# Altium schematic symbol library PCIEx16toMXM3.0.SchLib: 16 symbols
Pins are listed as number, name and electrical type; pins without a type are passive.

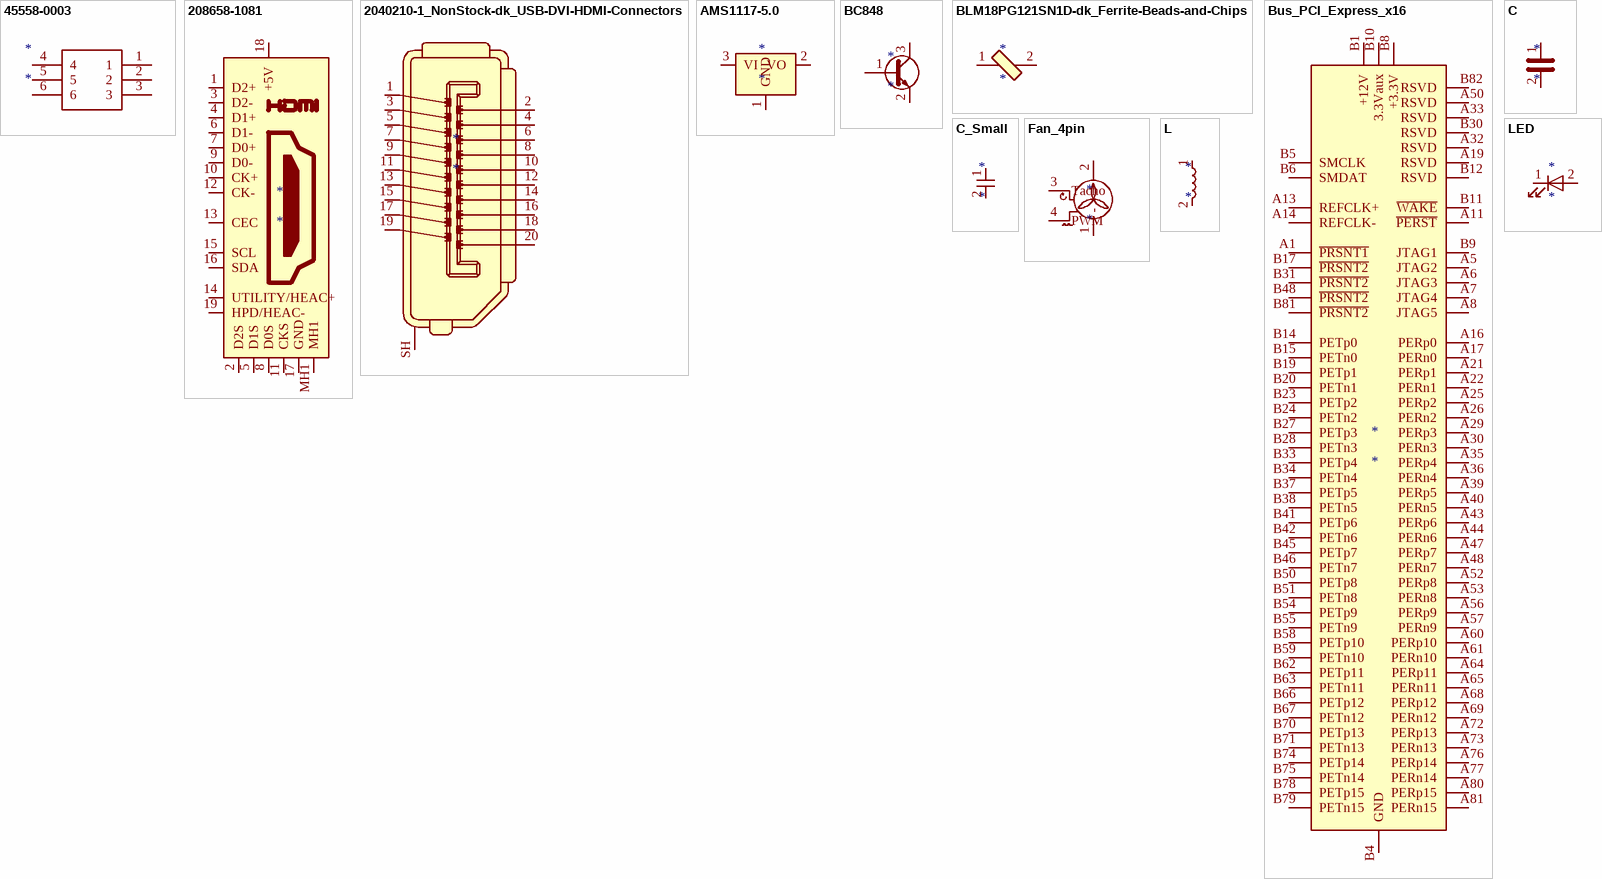
[diagram p0: symbols 45558-0003 to LED]

## 45558-0003
designator *
pins: 1, 2, 3, 4, 5, 6

## 208658-1081
designator *
pins: 1 D2+, 2 D2S, 3 D2-, 4 D1+, 5 D1S, 6 D1-, 7 D0+, 8 D0S, 9 D0-, 10 CK+, 11 CKS, 12 CK-, 13 CEC, 14 UTILITY/HEAC+, 15 SCL, 16 SDA, 17 GND, 18 +5V, 19 HPD/HEAC-, MH1, MH2 hidden, MH3 hidden, MH4 hidden

## 2040210-1_NonStock-dk_USB-DVI-HDMI-Connectors
designator *
pins: 1, 2, 3, 4, 5, 6, 7, 8, 9, 10, 11, 12, 13, 14, 15, 16, 17, 18, 19, 20, SH

## AMS1117-5.0
designator *
pins: 1 GND, 2 VO, 3 VI

## BC848
designator *
pins: 1 B, 2 E, 3 C

## BLM18PG121SN1D-dk_Ferrite-Beads-and-Chips
designator *
pins: 1, 2

## Bus_PCI_Express_x16
designator *
pins: A1 ~{PRSNT1}, A2 +12V hidden, A3 +12V hidden, A4 GND hidden, A5 JTAG2, A6 JTAG3, A7 JTAG4, A8 JTAG5, A9 +3.3V hidden, A10 +3.3V hidden, A11 ~{PERST}, A12 GND hidden, A13 REFCLK+, A14 REFCLK-, A15 GND hidden, A16 PERp0, A17 PERn0, A18 GND hidden, A19 RSVD, A20 GND hidden, A21 PERp1, A22 PERn1, A23 GND hidden, A24 GND hidden, A25 PERp2, A26 PERn2, A27 GND hidden, A28 GND hidden, A29 PERp3, A30 PERn3, A31 GND hidden, A32 RSVD, A33 RSVD, A34 GND hidden, A35 PERp4, A36 PERn4, A37 GND hidden, A38 GND hidden, A39 PERp5, A40 PERn5, A41 GND hidden, A42 GND hidden, A43 PERp6, A44 PERn6, A45 GND hidden, A46 GND hidden, A47 PERp7, A48 PERn7, A49 GND hidden, A50 RSVD, A51 GND hidden, A52 PERp8, A53 PERn8, A54 GND hidden, A55 GND hidden, A56 PERp9, A57 PERn9, A58 GND hidden, A59 GND hidden, A60 PERp10, A61 PERn10, A62 GND hidden, A63 GND hidden, A64 PERp11, A65 PERn11, A66 GND hidden, A67 GND hidden, A68 PERp12, A69 PERn12, A70 GND hidden, A71 GND hidden, A72 PERp13, A73 PERn13, A74 GND hidden, A75 GND hidden, A76 PERp14, A77 PERn14, A78 GND hidden, A79 GND hidden, A80 PERp15, A81 PERn15, A82 GND hidden, B1 +12V, B2 +12V hidden, B3 +12V hidden, B4 GND, B5 SMCLK, B6 SMDAT, B7 GND hidden, B8 +3.3V, B9 JTAG1, B10 3.3Vaux, B11 ~{WAKE}, B12 RSVD, B13 GND hidden, B14 PETp0, B15 PETn0, B16 GND hidden, B17 ~{PRSNT2}, B18 GND hidden, B19 PETp1, B20 PETn1, B21 GND hidden, B22 GND hidden, B23 PETp2, B24 PETn2, B25 GND hidden, B26 GND hidden, B27 PETp3, B28 PETn3, B29 GND hidden, B30 RSVD, B31 ~{PRSNT2}, B32 GND hidden, B33 PETp4, B34 PETn4, B35 GND hidden, B36 GND hidden, B37 PETp5, B38 PETn5, B39 GND hidden, B40 GND hidden, B41 PETp6, B42 PETn6, B43 GND hidden, B44 GND hidden, B45 PETp7, B46 PETn7, B47 GND hidden, B48 ~{PRSNT2}, B49 GND hidden, B50 PETp8, B51 PETn8, B52 GND hidden, B53 GND hidden, B54 PETp9, B55 PETn9, B56 GND hidden, B57 GND hidden, B58 PETp10, B59 PETn10, B60 GND hidden, B61 GND hidden, B62 PETp11, B63 PETn11, B64 GND hidden, B65 GND hidden, B66 PETp12, B67 PETn12, B68 GND hidden, B69 GND hidden, B70 PETp13, B71 PETn13, B72 GND hidden, B73 GND hidden, B74 PETp14, B75 PETn14, B76 GND hidden, B77 GND hidden, B78 PETp15, B79 PETn15, B80 GND hidden, B81 ~{PRSNT2}, B82 RSVD

## C
designator *
pins: 1, 2

## C_Small
designator *
pins: 1, 2

## Fan_4pin
designator *
pins: 1 -, 2 +, 3 Tacho, 4 PWM

## L
designator *
pins: 1, 2

## LED
designator *
pins: 1 K, 2 A

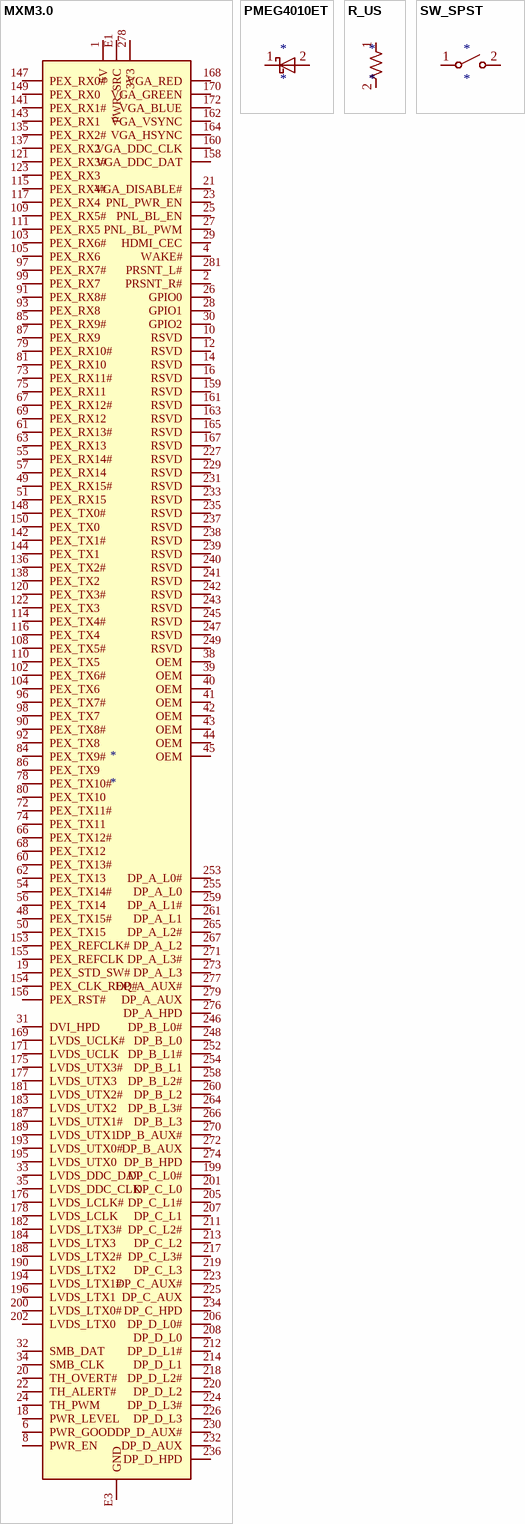
[diagram p1: symbols MXM3.0 to SW_SPST]

## MXM3.0
designator *
pins: 1 5V, 2 PRSNT_R#, 3 5V hidden, 4 WAKE#, 5 5V hidden, 6 PWR_GOOD, 7 5V hidden, 8 PWR_EN, 9 5V hidden, 10 RSVD, 11 GND hidden, 12 RSVD, 13 GND hidden, 14 RSVD, 15 GND hidden, 16 RSVD, 17 GND hidden, 18 PWR_LEVEL, 19 PEX_STD_SW#, 20 TH_OVERT#, 21 VGA_DISABLE#, 22 TH_ALERT#, 23 PNL_PWR_EN, 24 TH_PWM, 25 PNL_BL_EN, 26 GPIO0, 27 PNL_BL_PWM, 28 GPIO1, 29 HDMI_CEC, 30 GPIO2, 31 DVI_HPD, 32 SMB_DAT, 33 LVDS_DDC_DAT, 34 SMB_CLK, 35 LVDS_DDC_CLK, 36 GND hidden, 37 GND hidden, 38 OEM, 39 OEM, 40 OEM, 41 OEM, 42 OEM, 43 OEM, 44 OEM, 45 OEM, 46 GND hidden, 47 GND hidden, 48 PEX_TX15#, 49 PEX_RX15#, 50 PEX_TX15, 51 PEX_RX15, 52 GND hidden, 53 GND hidden, 54 PEX_TX14#, 55 PEX_RX14#, 56 PEX_TX14, 57 PEX_RX14, 58 GND hidden, 59 GND hidden, 60 PEX_TX13#, 61 PEX_RX13#, 62 PEX_TX13, 63 PEX_RX13, 64 GND hidden, 65 GND hidden, 66 PEX_TX12#, 67 PEX_RX12#, 68 PEX_TX12, 69 PEX_RX12, 70 GND hidden, 71 GND hidden, 72 PEX_TX11#, 73 PEX_RX11#, 74 PEX_TX11, 75 PEX_RX11, 76 GND hidden, 77 GND hidden, 78 PEX_TX10#, 79 PEX_RX10#, 80 PEX_TX10, 81 PEX_RX10, 82 GND hidden, 83 GND hidden, 84 PEX_TX9#, 85 PEX_RX9#, 86 PEX_TX9, 87 PEX_RX9, 88 GND hidden, 89 GND hidden, 90 PEX_TX8#, 91 PEX_RX8#, 92 PEX_TX8, 93 PEX_RX8, 94 GND hidden, 95 GND hidden, 96 PEX_TX7#, 97 PEX_RX7#, 98 PEX_TX7, 99 PEX_RX7, 100 GND hidden, 101 GND hidden, 102 PEX_TX6#, 103 PEX_RX6#, 104 PEX_TX6, 105 PEX_RX6, 106 GND hidden, 107 GND hidden, 108 PEX_TX5#, 109 PEX_RX5#, 110 PEX_TX5, 111 PEX_RX5, 112 GND hidden, 113 GND hidden, 114 PEX_TX4#, 115 PEX_RX4#, 116 PEX_TX4, 117 PEX_RX4, 118 GND hidden, 119 GND hidden, 120 PEX_TX3#, 121 PEX_RX3#, 122 PEX_TX3, 123 PEX_RX3, 124 GND hidden, 125 GND hidden, 133 GND hidden, 134 GND hidden, 135 PEX_RX2#, 136 PEX_TX2#, 137 PEX_RX2, 138 PEX_TX2, 139 GND hidden, 140 GND hidden, 141 PEX_RX1#, 142 PEX_TX1#, 143 PEX_RX1, 144 PEX_TX1, 145 GND hidden, 146 GND hidden, 147 PEX_RX0#, 148 PEX_TX0#, 149 PEX_RX0, 150 PEX_TX0, 151 GND hidden, 152 GND hidden, 153 PEX_REFCLK#, 154 PEX_CLK_REQ#, 155 PEX_REFCLK, 156 PEX_RST#, 157 GND hidden, 158 VGA_DDC_DAT, 159 RSVD, 160 VGA_DDC_CLK, 161 RSVD, 162 VGA_VSYNC, 163 RSVD, 164 VGA_HSYNC, 165 RSVD, 166 GND hidden, 167 RSVD, 168 VGA_RED, 169 LVDS_UCLK#, 170 VGA_GREEN, 171 LVDS_UCLK, 172 VGA_BLUE, 173 GND hidden, 174 GND hidden, 175 LVDS_UTX3#, 176 LVDS_LCLK#, 177 LVDS_UTX3, 178 LVDS_LCLK, 179 GND hidden, 180 GND hidden, 181 LVDS_UTX2#, 182 LVDS_LTX3#, 183 LVDS_UTX2, 184 LVDS_LTX3, 185 GND hidden, 186 GND hidden, 187 LVDS_UTX1#, 188 LVDS_LTX2#, 189 LVDS_UTX1, 190 LVDS_LTX2, 191 GND hidden, 192 GND hidden, 193 LVDS_UTX0#, 194 LVDS_LTX1#, 195 LVDS_UTX0, 196 LVDS_LTX1, 197 GND hidden, 198 GND hidden, 199 DP_C_L0#, 200 LVDS_LTX0#, 201 DP_C_L0, 202 LVDS_LTX0, 203 GND hidden, 204 GND hidden, 205 DP_C_L1#, 206 DP_D_L0#, 207 DP_C_L1, 208 DP_D_L0, 209 GND hidden, 210 GND hidden, 211 DP_C_L2#, 212 DP_D_L1#, 213 DP_C_L2, 214 DP_D_L1, 215 GND hidden, 216 GND hidden, 217 DP_C_L3#, 218 DP_D_L2#, 219 DP_C_L3, 220 DP_D_L2, 221 GND hidden, 222 GND hidden, 223 DP_C_AUX#, 224 DP_D_L3#, 225 DP_C_AUX, 226 DP_D_L3, 227 RSVD, 228 GND hidden, 229 RSVD, 230 DP_D_AUX#, 231 RSVD, 232 DP_D_AUX, 233 RSVD, 234 DP_C_HPD, 235 RSVD, 236 DP_D_HPD, 237 RSVD, 238 RSVD, 239 RSVD, 240 RSVD, 241 RSVD, 242 RSVD, 243 RSVD, 244 GND hidden, 245 RSVD, 246 DP_B_L0#, 247 RSVD, 248 DP_B_L0, 249 RSVD, 250 GND hidden, 251 GND hidden, 252 DP_B_L1#, 253 DP_A_L0#, 254 DP_B_L1, 255 DP_A_L0, 256 GND hidden, 257 GND hidden, 258 DP_B_L2#, 259 DP_A_L1#, 260 DP_B_L2, 261 DP_A_L1, 262 GND hidden, 263 GND hidden, 264 DP_B_L3#, 265 DP_A_L2#, 266 DP_B_L3, 267 DP_A_L2, 268 GND hidden, 269 GND hidden, 270 DP_B_AUX#, 271 DP_A_L3#, 272 DP_B_AUX, 273 DP_A_L3, 274 DP_B_HPD, 275 GND hidden, 276 DP_A_HPD, 277 DP_A_AUX#, 278 3V3, 279 DP_A_AUX, 280 3V3 hidden, 281 PRSNT_L#, E1 PWR_SRC, E2 PWR_SRC hidden, E3 GND, E4 GND hidden

## PMEG4010ET
designator *
pins: 1 K, 2 A

## R_US
designator *
pins: 1, 2

## SW_SPST
designator *
pins: 1 A, 2 B